# EAGLE library part BQ24610_LIPO_CHARGER (library Taylor)
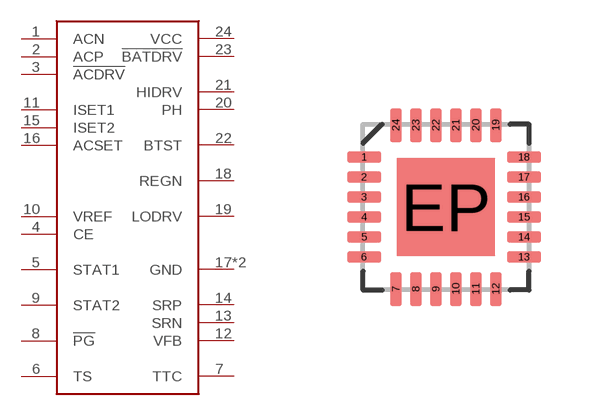
[diagram p32: symbol with the pads of QFN-24_ALT2; footprint QFN-24_ALT2]

Designator prefix U

## BQ24610_LIPO_CHARGER  [QFN-24_ALT2]
1  ACN
2  ACP
3  !ACDRV!
4  CE
5  STAT1
6  TS
7  TTC
8  !PG!
9  STAT2
10  VREF
11  ISET1
12  VFB
13  SRN
14  SRP
15  ISET2
16  ACSET
17  GND
18  REGN
19  LODRV
20  PH
21  HIDRV
22  BTST
23  !BATDRV!
24  VCC
EP  GND

## Footprint QFN-24_ALT2 (pad centres in mm)
24-pin QFN with Exposed Thermal pad Parts that use this package: A6282 Last modified: 8/20/10 ***UNPROVEN***
smd 0.85 x 0.28: 1 -2.05,1.25; 2 -2.05,0.75; 3 -2.05,0.25; 4 -2.05,-0.25; 5 -2.05,-0.75; 6 -2.05,-1.25; 13 1.95,-1.25; 14 1.95,-0.75; 15 1.95,-0.25; 16 1.95,0.25; 17 1.95,0.75; 18 1.95,1.25
smd 0.28 x 0.85: 7 -1.25,-2.05; 8 -0.75,-2.05; 9 -0.25,-2.05; 10 0.25,-2.05; 11 0.75,-2.05; 12 1.25,-2.05; 19 1.25,2.05; 20 0.75,2.05; 21 0.25,2.05; 22 -0.25,2.05; 23 -0.75,2.05; 24 -1.25,2.05
smd 2.45 x 2.45: EP 0,0